# EAGLE library part 79109-08_S (library con-molex-milli-grid)
RECEPTACAL
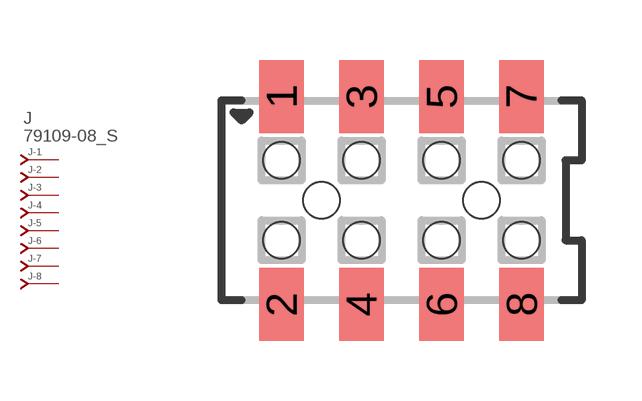
[diagram p260: symbol with the pads of 79109-08; footprint 79109-08]

Designator prefix J; gates -1=J-NV -2=J-N -3=J-N -4=J-N -5=J-N -6=J-N -7=J-N -8=J-N

## 79109-08_S  [79109-08]
1  -1:J  pas
2  -2:J  pas
3  -3:J  pas
4  -4:J  pas
5  -5:J  pas
6  -6:J  pas
7  -7:J  pas
8  -8:J  pas

## Footprint 79109-08 (pad centres in mm)
RECEPTACAL SMD Dual Row, Vertical, Pass-Thru
smd 1.12 x 1.83: 1 -3,2.6; 2 -3,-2.6; 3 -1,2.6; 4 -1,-2.6; 5 1,2.6; 6 1,-2.6; 7 3,2.6; 8 3,-2.6
hole 0.914 at -2,0
hole 0.914 at -3,1
hole 0.914 at -3,-1
hole 0.914 at -1,-1
hole 0.914 at -1,1
hole 0.914 at 1,-1
hole 0.914 at 1,1
hole 0.914 at 2,0
hole 0.914 at 3,1
hole 0.914 at 3,-1